# Altium footprint library PCB_COF_1.2.PcbLib: 26 footprints (part 2 of 2)
Each footprint in its own frame and in the unit in brackets; x right, y up, seen from the top. Pads: shape width x height; smd on the part's side, far side on the other; paste and mask are expansions set on the pad; w line width, h text height; cw(c..) or ccw(c..) is an arc to the next point about the centre after c.
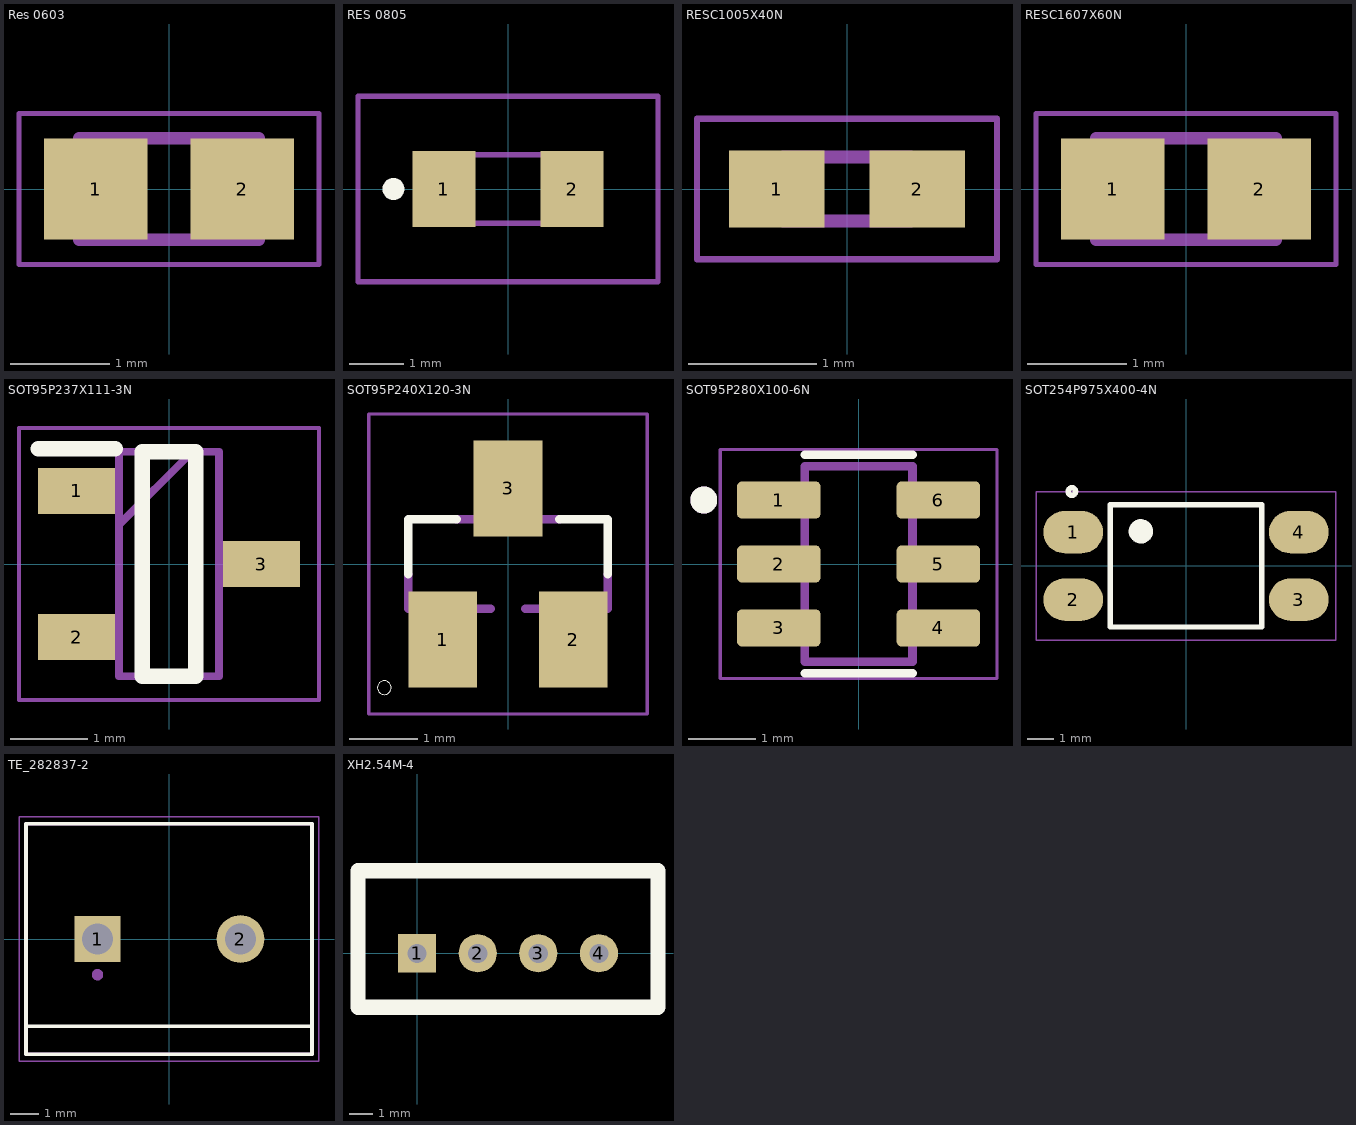
[diagram p1: the footprints below, top view; thin cyan lines are the x and y axes]

## Res 0603 [mm]
pads (2):
  rect 1.04x1.02 smd mask+0.076: 1(-0.735,0) 2(0.735,0)
Mechanical 13:
  lines w0.127: -0.9,-0.51 -0.9,0.51 0.9,0.51 0.9,-0.51 -0.9,-0.51
Mechanical 15:
  lines w0.05: -1.508,-0.761 -1.508,0.761 1.508,0.761 1.508,-0.761 -1.508,-0.761

## RES 0805 [mm]
pads (2):
  rect 1.15x1.4 smd mask+0.076: 1(-1.175,0) 2(1.175,0)
Top Overlay:
  lines w0.2: -2.1,-0.1 cw(c-2.1,0) -2.1,0.1 cw(c-2.1,0) -2.1,-0.1
Mechanical 15:
  lines w0.1: -1,-0.625 1,-0.625 1,0.625 -1,0.625 -1,-0.625
Mechanical 16:
  lines w0.1: -2.75,-1.7 2.75,-1.7 2.75,1.7 -2.75,1.7 -2.75,-1.7
3D body "ERJ-P06J202V.stp": height 0.6, standoff 0, extent -1,-0.625 1,0.625

## RESC1005X40N [mm]
pads (2):
  rect 0.75x0.6 smd: 1(-0.55,0) 2(0.55,0)
Mechanical 15:
  lines w0.1: -0.5,-0.25 -0.5,0.25 0.5,0.25 0.5,-0.25 -0.5,-0.25
Mechanical 16:
  lines w0.05: -1.175,-0.55 -1.175,0.55 1.175,0.55 1.175,-0.55 -1.175,-0.55
3D body "RC0402FR-0793K1L.stp": height 0.4, standoff 0, extent -0.5,-0.25 0.5,0.25

## RESC1607X60N [mm]
pads (2):
  rect 1.04x1.02 smd: 1(-0.735,0) 2(0.735,0)
Mechanical 13:
  lines w0.127: -0.9,-0.51 -0.9,0.51 0.9,0.51 0.9,-0.51 -0.9,-0.51
Mechanical 15:
  lines w0.05: -1.508,-0.761 -1.508,0.761 1.508,0.761 1.508,-0.761 -1.508,-0.761

## SOT95P237X111-3N [mm]
pads (3):
  rect 1x0.6 smd: 1(-1.2,0.95) 2(-1.2,-0.95) 3(1.2,0)
Top Overlay:
  lines w0.2: -1.7,1.5 -0.7,1.5 ; -0.35,-1.46 -0.35,1.46 0.35,1.46 0.35,-1.46 -0.35,-1.46
Mechanical 15:
  lines w0.1: -0.65,0.51 0.3,1.46 ; -0.65,-1.46 -0.65,1.46 0.65,1.46 0.65,-1.46 -0.65,-1.46
Mechanical 16:
  lines w0.05: -1.95,-1.77 -1.95,1.77 1.95,1.77 1.95,-1.77 -1.95,-1.77
3D body "BCW66GLT1G.stp": height 1.11, standoff 0, extent -1.185,-1.46 1.185,1.46

## SOT95P240X120-3N [mm]
pads (3):
  rect 1x1.4 smd: 1(-0.95,-1.1) 2(0.95,-1.1) 3(0,1.1)
Top Overlay:
  circle w0: c-1.8,-1.8 r0.1
  lines w0.127: -1.45,-0.15 -1.45,0.65 -0.75,0.65 ; 0.75,0.65 1.45,0.65 1.45,-0.15
Mechanical 13:
  region: 0.229,0.713 -0.229,0.713 -0.229,1.295 0.229,1.295
  region: 1.168,-1.297 0.712,-1.297 0.712,-0.711 1.168,-0.711
  region: -0.711,-1.298 -1.171,-1.298 -1.171,-0.711 -0.711,-0.711
  lines w0.127: -1.45,-0.15 -1.45,-0.65 -0.25,-0.65 ; -0.75,0.65 0.75,0.65 ; 0.25,-0.65 1.45,-0.65 1.45,-0.15
Mechanical 15:
  lines w0.051: -2.023,-2.183 2.023,-2.183 2.023,2.183 -2.023,2.183 -2.023,-2.183

## SOT95P280X100-6N [mm]
pads (6):
  rrect25% 1.24x0.55 smd: 1(-1.185,0.95) 2(-1.185,0) 3(-1.185,-0.95) 4(1.185,-0.95) 5(1.185,0) 6(1.185,0.95)
Top Overlay:
  circle w0.2: c-2.3,0.95 r0.1
  lines w0.127: -0.8,-1.62 0.8,-1.62 ; -0.8,1.62 0.8,1.62
Mechanical 13:
  circle w0.2: c-2.3,0.95 r0.1
  lines w0.127: -0.8,-1.45 0.8,-1.45 0.8,1.45 -0.8,1.45 -0.8,-1.45
Mechanical 15:
  lines w0.05: -2.055,-1.7 2.055,-1.7 2.055,1.7 -2.055,1.7 -2.055,-1.7

## SOT254P975X400-4N [mm]
pads (4):
  oval 2.25x1.6 smd: 1(-4.25,1.27) 2(-4.25,-1.27) 3(4.25,-1.27) 4(4.25,1.27)
Top Overlay:
  circle w0.2: c-4.3,2.8 r0.141
  circle w0.2: c-1.7,1.3 r0.361
  region: -1.4,1.001 -2.001,1.001 -2.001,1.6 -1.4,1.6
  lines w0.2: -2.85,-2.3 -2.85,2.3 2.85,2.3 2.85,-2.3 -2.85,-2.3
Mechanical 15:
  lines w0.052: -5.65,-2.8 -5.65,2.8 5.65,2.8 5.65,-2.8 -5.65,-2.8

## TE_282837-2 [mm]
pads (2):
  rect 1.65x1.65 / inner round 1.65 / far side rect 1.65x1.65 hole 1.1: 1(-2.54,0)
  round 1.7 hole 1.1: 2(2.54,0)
Top Overlay:
  lines w0.127: -5.08,-3.1 5.08,-3.1 ; -5.08,-3.1 -5.08,4.1 5.08,4.1 5.08,-3.1 ; -5.08,-3.1 -5.08,-4.1 5.08,-4.1 5.08,-3.1
Mechanical 13:
  circle w0.2: c-2.54,-1.27 r0.1
  lines w0.127: -5.08,-4.1 -5.08,4.1 5.08,4.1 5.08,-4.1 -5.08,-4.1
Mechanical 15:
  lines w0.05: -5.33,-4.35 -5.33,4.35 5.33,4.35 5.33,-4.35 -5.33,-4.35
3D body "step_temp.STEP": height 7.25, standoff -6.25, extent -5.68,0 5.08,8.2

## XH2.54M-4 [mm]
pads (4):
  rect 1.6x1.6 hole 0.8: 1(0,0)
  round 1.6 hole 0.8: 2(2.54,0) 3(5.08,0) 4(7.62,0)
Top Overlay:
  lines w0.635: -2.48,-2.26 10.1,-2.26 10.1,3.46 -2.48,3.46 -2.48,-2.26
3D body "XH2.54M-4.STEP": height 6.91, standoff -1.82, extent -2.48,-2.26 10.1,3.48